# Altium schematic symbol library BSC018N04LS G.SchLib: 1 symbol
Pins are listed as number, name and electrical type; pins without a type are passive.

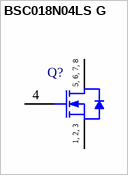
[diagram p0: symbol BSC018N04LS G]

## BSC018N04LS G
designator Q?
N-Channel OptiMOS 3 Power-Transistor, 40 V VDS, 100 A ID, -55 to 150 degC, PG-TDSON-8-1, Reel, Green; Manufacturer: Infineon; PartNumber: BSC018N04LS G; Green: TRUE; ID (max): 100 A; IDpuls (max): 400 A; Polarity: N; Ptot (max): 125 W; QG: 54 nC; RDS (on) (max): 1.8 mOhm; RDS (on) (max) (@4.5V): 2.5 mOhm; Rth: 1 K/W; RthJA (max): 50 K/W; VDS (max): 40 V; VGS(th) (max): 2 V; VGS(th) (min): 1.2 V; DatasheetVersion: Rev. 1.4; PackageReference: PG-TDSON-8-1; PackageDescription: 8-Pin Plastic (Green) Thin Dual Small Outline Non-Leaded Package, 5.15 x 5.9 mm Body, 1.27 mm Pitch; Supplier 1: Digi-Key; Supplier Part Number 1: BSC018N04LS GTR-ND; Supplier 2: Digi-Key; Supplier Part Number 2: BSC018N04LS GCT-ND; Supplier 3: Digi-Key; Supplier Part Number 3: BSC018N04LS GDKR-ND; Supplier 4: Mouser; Supplier Part Number 4: 726-BSC018N04LSG; Halogen-free: TRUE; Packing: Reel; RthJC (max): 1 K/W; Mounting Technology: Surface Mount; ComponentLink1Description: Manufacturer URL; ComponentLink1URL: http://www.infineon.com/; ComponentLink2Description: Datasheet; ComponentLink2URL: http://www.infineon.com/dgdl/BSC018N04LSG_rev1.4.pdf?folderId=db3a304412b407950112b408e8c90004&fileId=db3a30431689f4420116c42d085d0808; ComponentLink3Description: Package Specification; ComponentLink3URL: http://www.infineon.com/cms/packages/SMD_-_Surface_Mounted_Devices/P-PG-TDSON/P-PG-TDSON-08-01x_2x_3.html?__locale=en
footprint INF-PG-TDSON-8-1_V (TDSON, 8-Leads, Body 6.15x5.15mm, Pitch 1.27mm)
pins: 1 SOURCE, 2 SOURCE, 3 SOURCE, 4 GATE, 5 DRAIN, 6 DRAIN, 7 DRAIN, 8 DRAIN
text: 5, 6, 7, 8; 1, 2, 3